# EAGLE library part BED_MOTOR_DRIVER_BOTTOM_MOUNT (library 3D_MIG_Controller)
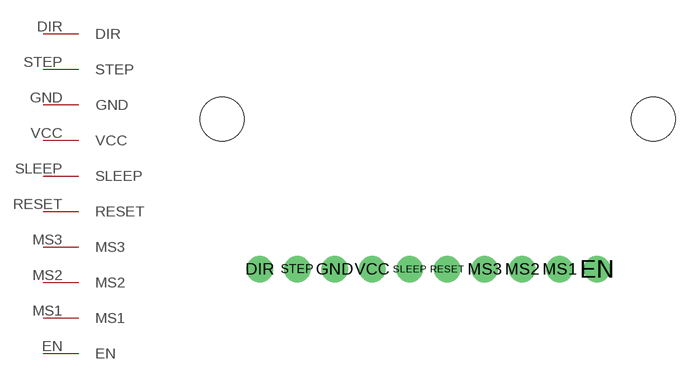
[diagram p14: symbol with the pads of BED_MOTOR_DS_BOTTOM; footprint BED_MOTOR_DS_BOTTOM]

Designator prefix -

## BED_MOTOR_DRIVER_BOTTOM_MOUNT  [BED_MOTOR_DS_BOTTOM]
DIR  DIR
EN  EN
GND  GND
MS1  MS1
MS2  MS2
MS3  MS3
RESET  RESET
SLEEP  SLEEP
STEP  STEP
VCC  VCC

## Footprint BED_MOTOR_DS_BOTTOM (pad centres in mm)
drill 1.2: DIR -22.86,0; EN 0,0; GND -17.78,0; MS1 -2.54,0; MS2 -5.08,0; MS3 -7.62,0; RESET -10.16,0; SLEEP -12.7,0; STEP -20.32,0; VCC -15.24,0
hole 3 at 3.81,10.16
hole 3 at -25.4,10.16